# Altium integrated library SparkFun-Capacitors.Library.IntLib: 137 symbols (part 2 of 2)
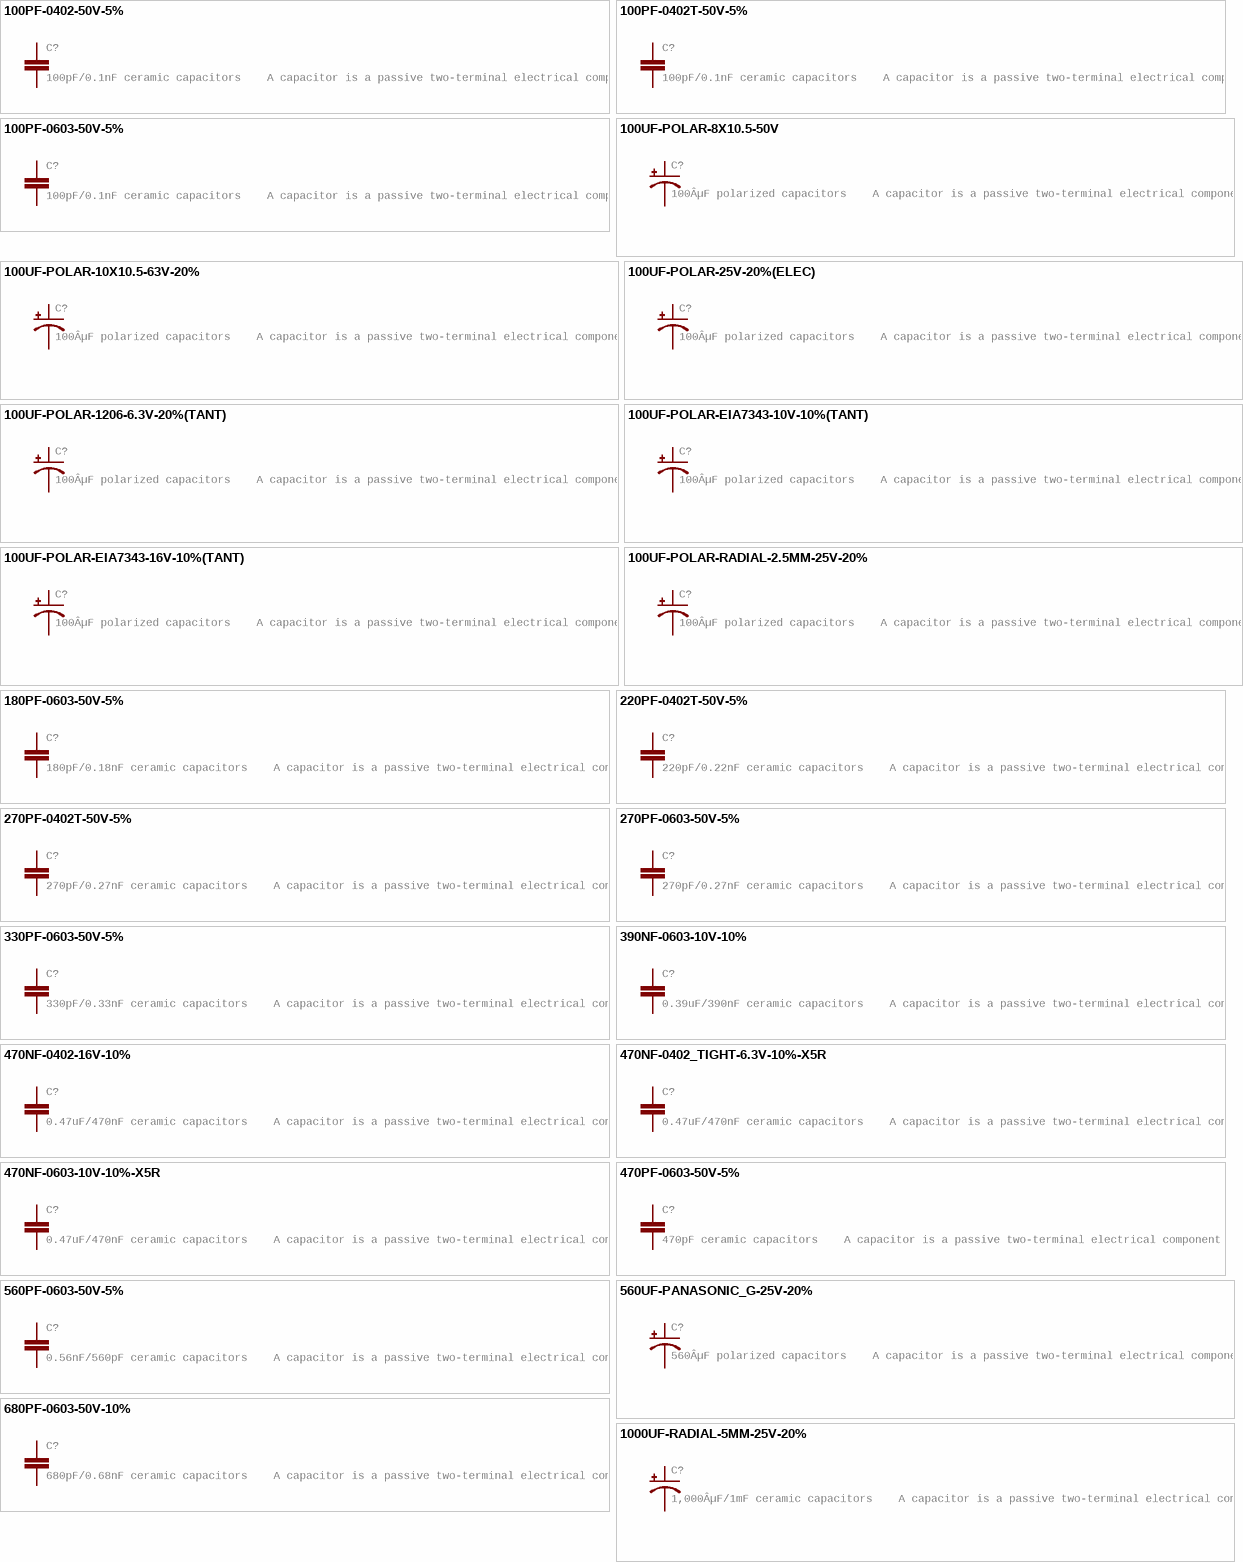
[diagram p6: symbols 100PF-0402-50V-5% to 1000UF-RADIAL-5MM-25V-20%]

## 1000UF-RADIAL-5MM-25V-20%
designator C?, comment 1,000ÂµF/1mF ceramic capacitors    A capacitor is a passive two-terminal electrical component used to store electrical energy temporarily in an electric field.CAP-08070
GateName_1: G$1; SymbolName_1: CAP_POL; DeviceName: -RADIAL-5MM-25V-20%; DeviceSetName: 1000UF; PROD_ID: CAP-09538; LibraryName: SparkFun-Capacitors; Package: CPOL-RADIAL-5MM-10MM
footprint CPOL-RADIAL-5MM-10MM
pins: +, -

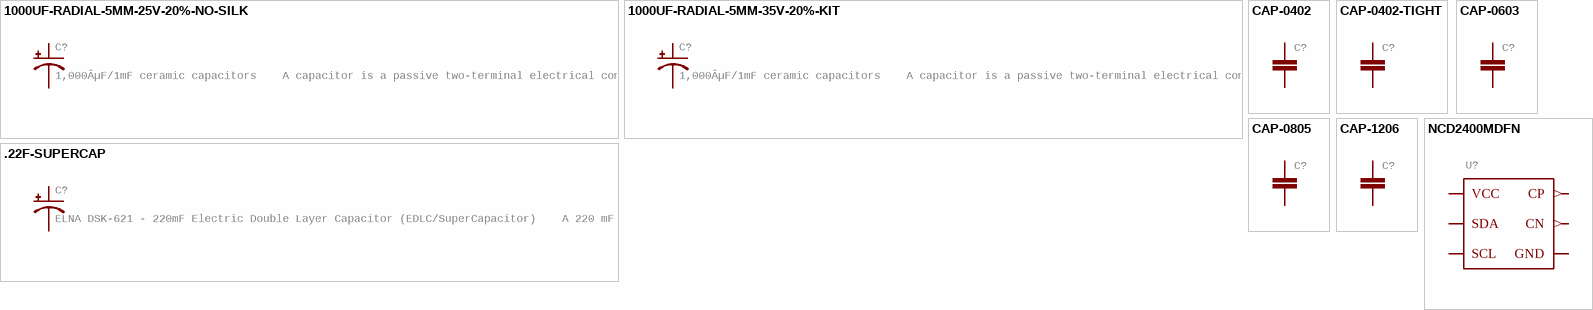
[diagram p5: symbols 1000UF-RADIAL-5MM-25V-20%-NO-SILK to NCD2400MDFN]

## 1000UF-RADIAL-5MM-25V-20%-NO-SILK
designator C?, comment 1,000ÂµF/1mF ceramic capacitors    A capacitor is a passive two-terminal electrical component used to store electrical energy temporarily in an electric field.CAP-08070
GateName_1: G$1; SymbolName_1: CAP_POL; DeviceName: -RADIAL-5MM-25V-20%-NO-SILK; DeviceSetName: 1000UF; LibraryName: SparkFun-Capacitors; Package: CPOL-RADIAL-5MM-10MM-NS
footprint CPOL-RADIAL-5MM-10MM-NS
pins: +, -

## 1000UF-RADIAL-5MM-35V-20%-KIT
designator C?, comment 1,000ÂµF/1mF ceramic capacitors    A capacitor is a passive two-terminal electrical component used to store electrical energy temporarily in an electric field.CAP-08070
GateName_1: G$1; SymbolName_1: CAP_POL; DeviceName: -RADIAL-5MM-35V-20%-KIT; DeviceSetName: 1000UF; PROD_ID: CAP-09538; LibraryName: SparkFun-Capacitors; Package: CPOL-RADIAL-5MM-10MM-KIT
footprint CPOL-RADIAL-5MM-10MM-KIT
pins: +, -

## .22F-SUPERCAP
designator C?, comment ELNA DSK-621 - 220mF Electric Double Layer Capacitor (EDLC/SuperCapacitor)    A 220 mF SuperCapacitor. Used for backup power on devices with low standby current
GateName_1: G$1; SymbolName_1: CAP_POL; DeviceSetName: .22F-SUPERCAP; PROD_ID: CAP-13907; LibraryName: SparkFun-Capacitors; Package: DSK-RADIAL-4.8MM
footprint DSK-RADIAL-4.8MM
pins: +, -

## CAP-0402
designator C?
GateName_1: G$1; SymbolName_1: CAP; DeviceName: -0402; LibraryName: SparkFun-Capacitors; DeviceSetName: CAP; Package: 0402
footprint 0402
pins: 1, 2

## CAP-0402-TIGHT
designator C?
GateName_1: G$1; SymbolName_1: CAP; DeviceName: -0402-TIGHT; LibraryName: SparkFun-Capacitors; DeviceSetName: CAP; Package: 0402-TIGHT
footprint 0402-TIGHT
pins: 1, 2

## CAP-0603
designator C?
GateName_1: G$1; SymbolName_1: CAP; DeviceName: -0603; LibraryName: SparkFun-Capacitors; DeviceSetName: CAP; Package: 0603
footprint 0603
pins: 1, 2

## CAP-0805
designator C?
GateName_1: G$1; SymbolName_1: CAP; DeviceName: -0805; LibraryName: SparkFun-Capacitors; DeviceSetName: CAP; Package: 0805
footprint 0805
pins: 1, 2

## CAP-1206
designator C?
GateName_1: G$1; SymbolName_1: CAP; DeviceName: -1206; LibraryName: SparkFun-Capacitors; DeviceSetName: CAP; Package: 1206
footprint 1206
pins: 1, 2

## NCD2400MDFN
designator U?
GateName_1: U1; SymbolName_1: CAP_I2C_ADJ; DeviceName: DFN; DeviceSetName: NCD2400M; LibraryName: SparkFun-Capacitors; Package: DFN6
footprint DFN6
pins: 1 SDA (io), 2 CP (out), 3 CN (out), 4 VCC (power), 5 GND (power), 6 SCL (io)